# EAGLE library part L293DNEE4 (library cachev)
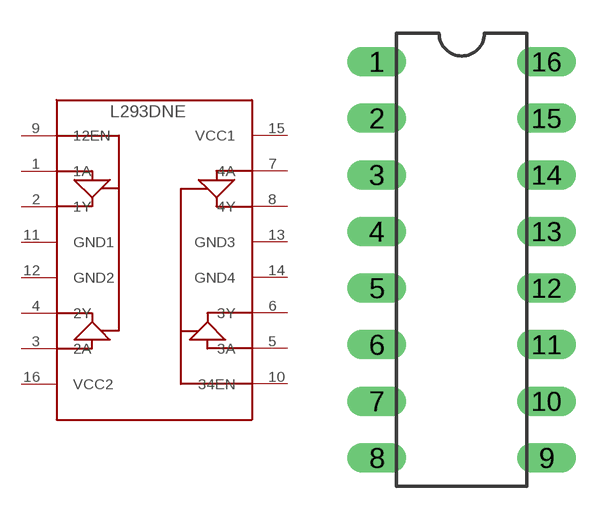
[diagram p0: symbol with the pads of DIP16; footprint DIP16]

Designator prefix -

## L293DNEE4  [DIP16]
1  1A
2  1Y
3  2A
4  2Y
5  3A
6  3Y
7  4A
8  4Y
9  12EN
10  34EN
11  GND1
12  GND2
13  GND3
14  GND4
15  VCC1
16  VCC2

## Footprint DIP16 (pad centres in mm)
drill 0.813 long: 1 -3.81,7.62; 2 -3.81,5.08; 3 -3.81,2.54; 4 -3.81,0; 5 -3.81,-2.54; 6 -3.81,-5.08; 7 -3.81,-7.62; 8 -3.81,-10.16; 9 3.81,-10.16; 10 3.81,-7.62; 11 3.81,-5.08; 12 3.81,-2.54; 13 3.81,0; 14 3.81,2.54; 15 3.81,5.08; 16 3.81,7.62